# Altium integrated library ON Semi Signal Management Modems & Transceivers.IntLib: 97 symbols (part 2 of 5)
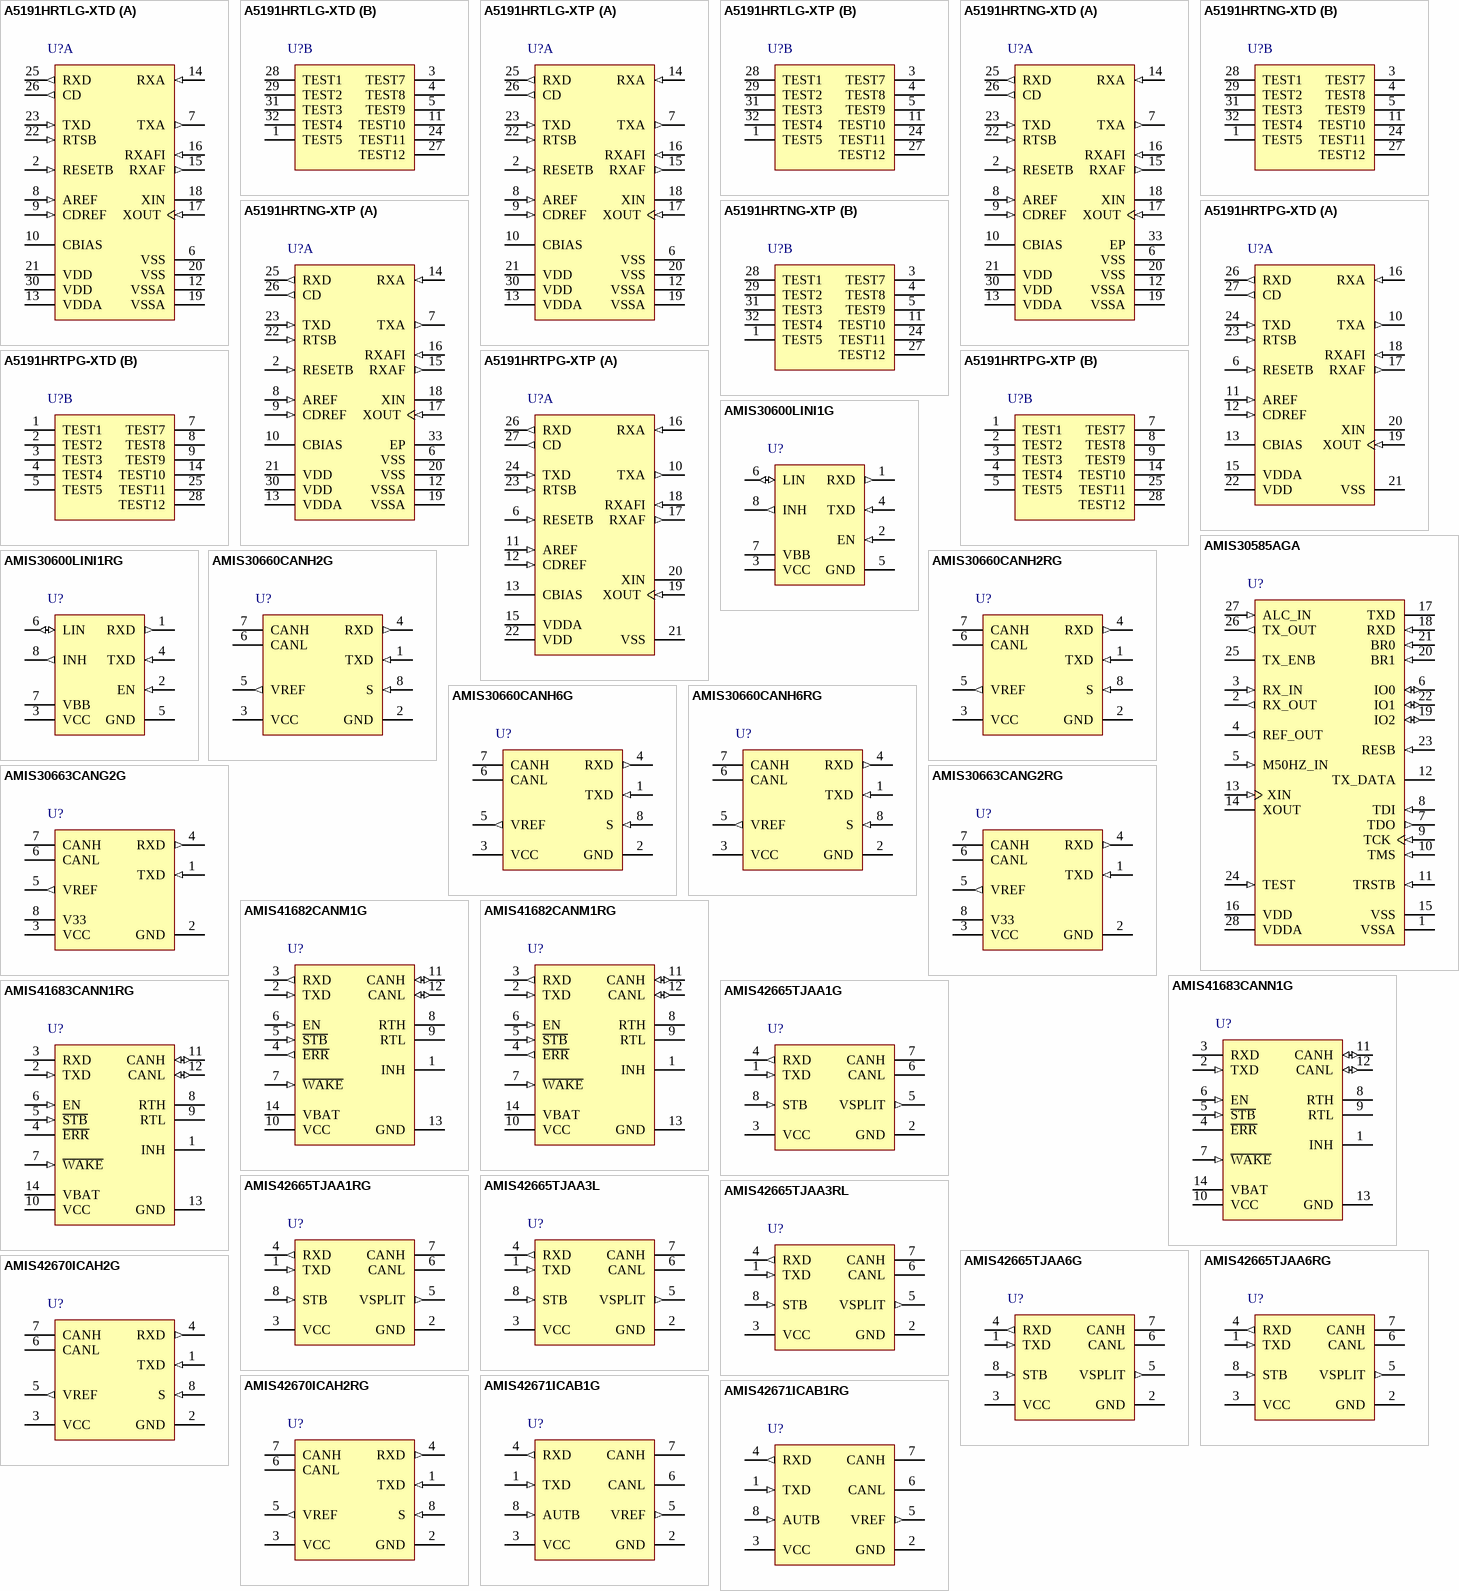
[diagram p5: symbols A5191HRTLG-XTD to AMIS42671ICAB1RG]

## AMIS42665TJAA6RG
designator U?
High-Speed Low Power CAN Transceiver, 4.75 to 5.25 V, -40 to 125 degC, 8-Pin SOIC, Pb-Free, Tape and Reel; Manufacturer: On Semiconductor; PartNumber: AMIS42665TJAA6RG; Data Rate: 1 Mb/s; Number of Drivers: 1; VCC Max (V): 5.25; VCC Min (V): 4.75; DatasheetVersion: Rev. 10; PackageVersion: Rev. AK, 02/2011; PackageReference: SOIC-8-751-07; PackageDescription: 8-Pin Small Outline Integrated Circuit, Body 4.9 x 3.9 mm, Pitch 1.27 mm; Supplier 1: Newark; Supplier Part Number 1: 63R1815; Supplier 2: Mouser; Supplier Part Number 2: 863-AMIS42665TJAA6RG; Data Transmission Standard: CAN; Number of Receivers: 1; Packing: Tape and Reel; RoHS: TRUE; Mounting Technology: Surface Mount; ComponentLink1Description: Manufacturer URL; ComponentLink1URL: http://www.onsemi.com/; ComponentLink2Description: Datasheet; ComponentLink2URL: http://www.onsemi.com/pub_link/Collateral/AMIS-42665-D.PDF; ComponentLink3Description: Package Specification; ComponentLink3URL: http://www.onsemi.com/pub_link/Collateral/751-07.PDF
footprint ONSC-SOIC-8-751-07_V (SOIC, 8-Leads, Body 4.9x3.9mm, Pitch 1.27mm)
pins: 1 TXD (in) "Transmit Data Input; Low Input --> Dominant Driver; Internal Pullup Current", 2 GND (power) "Ground", 3 VCC (power) "Supply Voltage", 4 RXD (out) "Receive Data Output; Dominant transmitter --> Low Output", 5 VSPLIT (out) "Common-Mode Stabilization Output", 6 CANL "Low-Level CAN Bus Line (Low in Dominant Mode)", 7 CANH "High-Level CAN Bus Line (High in Dominant Mode)", 8 STB (in) "Standby Mode Control Input"

## AMIS42670ICAH2G
designator U?
High-Speed CAN Transceiver for Long Networks, 4.75 to 5.25 V, -40 to 125 degC, 8-Pin SOIC, Pb-Free, Tube; Manufacturer: On Semiconductor; PartNumber: AMIS42670ICAH2G; Data Rate: 1 Mb/s; Number of Drivers: 1; VCC Max (V): 5.25; VCC Min (V): 4.75; DatasheetVersion: Rev. 3; PackageVersion: Rev. O, 09/2008; PackageReference: SOIC-8-751AZ-01; PackageDescription: 8-Pin Small Outline Integrated Circuit, Body 4.9 x 3.9 mm, Pitch 1.27 mm; Supplier 1: Digi-Key; Supplier Part Number 1: AMIS42670ICAH2G-ND; Supplier 2: Mouser; Supplier Part Number 2: 863-AMIS42670ICAH2G; Data Transmission Standard: CAN; Number of Receivers: 1; Packing: Tube; RoHS: TRUE; Mounting Technology: Surface Mount; ComponentLink1Description: Manufacturer URL; ComponentLink1URL: http://www.onsemi.com/; ComponentLink2Description: Datasheet; ComponentLink2URL: http://www.onsemi.com/pub_link/Collateral/AMIS-42670-D.PDF; ComponentLink3Description: Package Specification; ComponentLink3URL: http://www.onsemi.com/pub_link/Collateral/751AZ.PDF
footprint ONSC-SOIC-8-751AZ-01_N (SOIC, 8-Leads, Body 5x4mm, Pitch 1.27mm, IPC Medium Density)
footprint ONSC-SOIC-8-751AZ-01_L (SOIC, 8-Leads, Body 5x4mm, Pitch 1.27mm, IPC High Density)
footprint ONSC-SOIC-8-751AZ-01_M (SOIC, 8-Leads, Body 5x4mm, Pitch 1.27mm, IPC Low Density)
pins: 1 TXD (in) "Transmit data input; low input --> dominant driver; internal pull-up current", 2 GND (power) "Ground", 3 VCC (power) "Supply voltage", 4 RXD (out) "Receive data output; dominant transmitter --> low output", 5 VREF (out) "Reference voltage output", 6 CANL "Low-level CAN bus line (low in dominant mode)", 7 CANH "High-level CAN bus line (high in dominant mode)", 8 S (in) "Silent mode control input; internal pull-down current"

## AMIS42670ICAH2RG
designator U?
High-Speed CAN Transceiver for Long Networks, 4.75 to 5.25 V, -40 to 125 degC, 8-Pin SOIC, Pb-Free, Tape and Reel; Manufacturer: On Semiconductor; PartNumber: AMIS42670ICAH2RG; Data Rate: 1 Mb/s; Number of Drivers: 1; VCC Max (V): 5.25; VCC Min (V): 4.75; DatasheetVersion: Rev. 3; PackageVersion: Rev. O, 09/2008; PackageReference: SOIC-8-751AZ-01; PackageDescription: 8-Pin Small Outline Integrated Circuit, Body 4.9 x 3.9 mm, Pitch 1.27 mm; Supplier 1: Digi-Key; Supplier Part Number 1: AMIS42670ICAH2RG-ND; Supplier 2: Mouser; Supplier Part Number 2: 863-AMIS42670ICAH2RG; Data Transmission Standard: CAN; Number of Receivers: 1; Packing: Tape and Reel; RoHS: TRUE; Mounting Technology: Surface Mount; ComponentLink1Description: Manufacturer URL; ComponentLink1URL: http://www.onsemi.com/; ComponentLink2Description: Datasheet; ComponentLink2URL: http://www.onsemi.com/pub_link/Collateral/AMIS-42670-D.PDF; ComponentLink3Description: Package Specification; ComponentLink3URL: http://www.onsemi.com/pub_link/Collateral/751AZ.PDF
footprint ONSC-SOIC-8-751AZ-01_N (SOIC, 8-Leads, Body 5x4mm, Pitch 1.27mm, IPC Medium Density)
footprint ONSC-SOIC-8-751AZ-01_L (SOIC, 8-Leads, Body 5x4mm, Pitch 1.27mm, IPC High Density)
footprint ONSC-SOIC-8-751AZ-01_M (SOIC, 8-Leads, Body 5x4mm, Pitch 1.27mm, IPC Low Density)
pins: 1 TXD (in) "Transmit data input; low input --> dominant driver; internal pull-up current", 2 GND (power) "Ground", 3 VCC (power) "Supply voltage", 4 RXD (out) "Receive data output; dominant transmitter --> low output", 5 VREF (out) "Reference voltage output", 6 CANL "Low-level CAN bus line (low in dominant mode)", 7 CANH "High-level CAN bus line (high in dominant mode)", 8 S (in) "Silent mode control input; internal pull-down current"

## AMIS42671ICAB1G
designator U?
High Speed Autobaud CAN Transceiver, 4.75 to 5.25 V, -40 to 125 degC, 8-Pin SOIC, Pb-Free, Tube; Manufacturer: On Semiconductor; PartNumber: AMIS42671ICAB1G; Data Rate: 1 Mb/s; Number of Drivers: 1; VCC Max (V): 5.25; VCC Min (V): 4.75; DatasheetVersion: Rev. 3; PackageVersion: Rev. O, 09/2008; PackageReference: SOIC-8-751AZ-01; PackageDescription: 8-Pin Small Outline Integrated Circuit, Body 4.9 x 3.9 mm, Pitch 1.27 mm; Supplier 1: Digi-Key; Supplier Part Number 1: AMIS42671ICAB1G-ND; Supplier 2: Mouser; Supplier Part Number 2: 863-AMIS42671ICAB1G; Data Transmission Standard: CAN; Number of Receivers: 1; Packing: Tube; RoHS: TRUE; Mounting Technology: Surface Mount; ComponentLink1Description: Manufacturer URL; ComponentLink1URL: http://www.onsemi.com/; ComponentLink2Description: Datasheet; ComponentLink2URL: http://www.onsemi.com/pub_link/Collateral/AMIS-42671-D.PDF; ComponentLink3Description: Package Specification; ComponentLink3URL: http://www.onsemi.com/pub_link/Collateral/751AZ.PDF
footprint ONSC-SOIC-8-751AZ-01_N (SOIC, 8-Leads, Body 5x4mm, Pitch 1.27mm, IPC Medium Density)
footprint ONSC-SOIC-8-751AZ-01_L (SOIC, 8-Leads, Body 5x4mm, Pitch 1.27mm, IPC High Density)
footprint ONSC-SOIC-8-751AZ-01_M (SOIC, 8-Leads, Body 5x4mm, Pitch 1.27mm, IPC Low Density)
pins: 1 TXD (in) "Transmit Data Input; Low Input ? Dominant Driver; Internal Pullup Current", 2 GND (power) "Ground", 3 VCC (power) "Supply Voltage", 4 RXD (out) "Receive Data Output; Dominant Transmitter ? Low Output", 5 VREF (out) "Reference Voltage Output", 6 CANL "Low-Level CAN Bus Line (Low in Dominant Mode)", 7 CANH "High-Level CAN Bus Line (High in Dominant Mode)", 8 AUTB (in) "Autobaud Mode Control Input; Internal Pulldown Current"

## AMIS42671ICAB1RG
designator U?
High Speed Autobaud CAN Transceiver, 4.75 to 5.25 V, -40 to 125 degC, 8-Pin SOIC, Pb-Free, Tape and Reel; Manufacturer: On Semiconductor; PartNumber: AMIS42671ICAB1RG; Data Rate: 1 Mb/s; Number of Drivers: 1; VCC Max (V): 5.25; VCC Min (V): 4.75; DatasheetVersion: Rev. 3; PackageVersion: Rev. O, 09/2008; PackageReference: SOIC-8-751AZ-01; PackageDescription: 8-Pin Small Outline Integrated Circuit, Body 4.9 x 3.9 mm, Pitch 1.27 mm; Supplier 1: Digi-Key; Supplier Part Number 1: 766-1007-2-ND; Supplier 2: Digi-Key; Supplier Part Number 2: 766-1007-1-ND; Supplier 3: Digi-Key; Supplier Part Number 3: 766-1007-6-ND; Supplier 4: Mouser; Supplier Part Number 4: 863-AMIS42671ICAB1RG; Data Transmission Standard: CAN; Number of Receivers: 1; Packing: Tape and Reel; RoHS: TRUE; Mounting Technology: Surface Mount; ComponentLink1Description: Manufacturer URL; ComponentLink1URL: http://www.onsemi.com/; ComponentLink2Description: Datasheet; ComponentLink2URL: http://www.onsemi.com/pub_link/Collateral/AMIS-42671-D.PDF; ComponentLink3Description: Package Specification; ComponentLink3URL: http://www.onsemi.com/pub_link/Collateral/751AZ.PDF
footprint ONSC-SOIC-8-751AZ-01_N (SOIC, 8-Leads, Body 5x4mm, Pitch 1.27mm, IPC Medium Density)
footprint ONSC-SOIC-8-751AZ-01_L (SOIC, 8-Leads, Body 5x4mm, Pitch 1.27mm, IPC High Density)
footprint ONSC-SOIC-8-751AZ-01_M (SOIC, 8-Leads, Body 5x4mm, Pitch 1.27mm, IPC Low Density)
pins: 1 TXD (in) "Transmit Data Input; Low Input ? Dominant Driver; Internal Pullup Current", 2 GND (power) "Ground", 3 VCC (power) "Supply Voltage", 4 RXD (out) "Receive Data Output; Dominant Transmitter ? Low Output", 5 VREF (out) "Reference Voltage Output", 6 CANL "Low-Level CAN Bus Line (Low in Dominant Mode)", 7 CANH "High-Level CAN Bus Line (High in Dominant Mode)", 8 AUTB (in) "Autobaud Mode Control Input; Internal Pulldown Current"

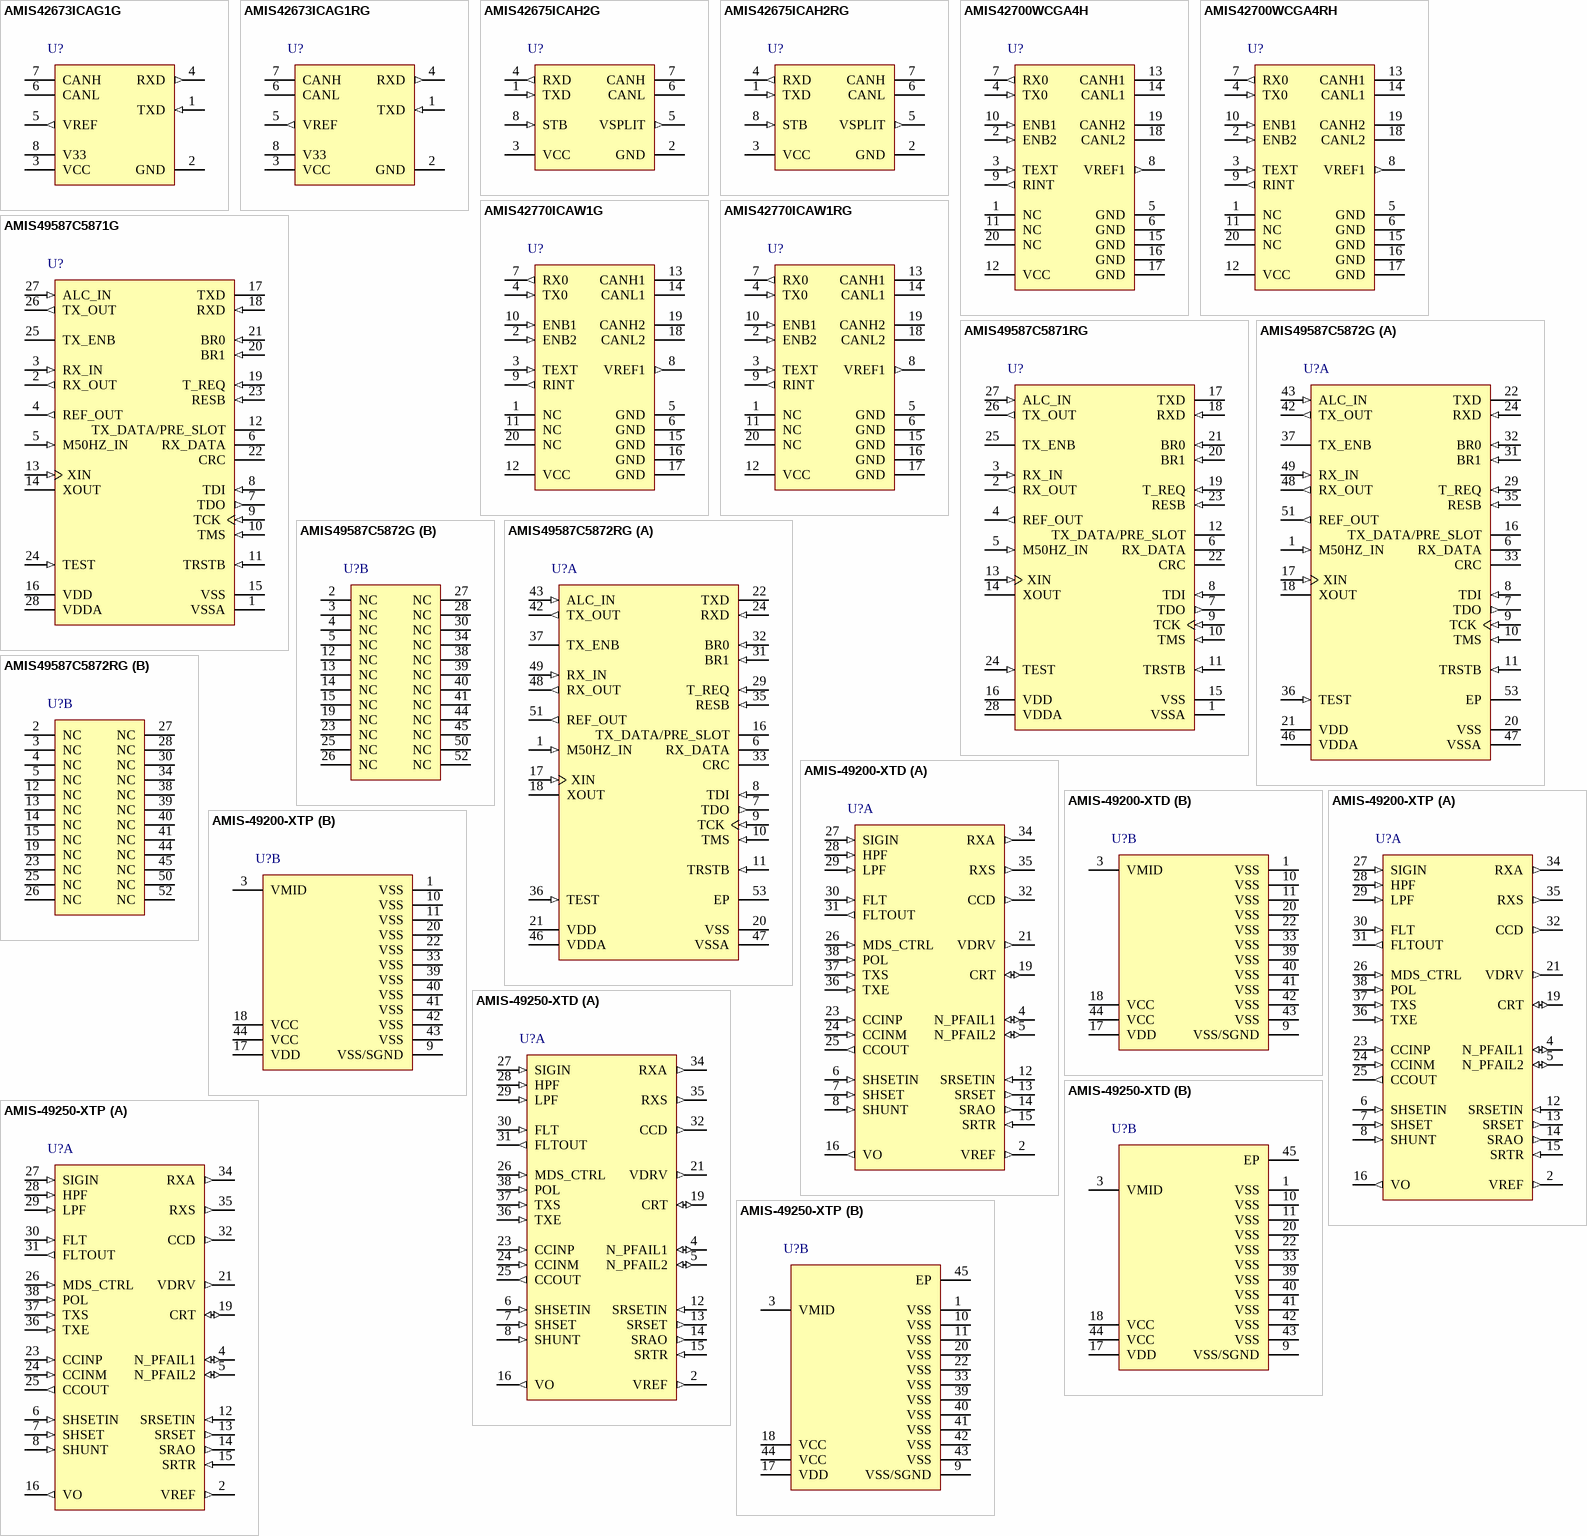
[diagram p1: symbols AMIS42673ICAG1G to AMIS-49250-XTP]

## AMIS42673ICAG1G
designator U?
High-Speed 3.3 V Digital Interface CAN Transceiver, 4.75 to 5.25 V, -40 to 125 degC, 8-Pin SOIC, Pb-Free, Tube; Manufacturer: On Semiconductor; PartNumber: AMIS42673ICAG1G; Data Rate: 1 Mb/s; Number of Drivers: 1; VCC Max (V): 5.25; VCC Min (V): 4.75; DatasheetVersion: Rev. 3; PackageVersion: Rev. O, 09/2008; PackageReference: SOIC-8-751AZ-01; PackageDescription: 8-Pin Small Outline Integrated Circuit, Body 4.9 x 3.9 mm, Pitch 1.27 mm; Supplier 1: Digi-Key; Supplier Part Number 1: AMIS42673ICAG1G-ND; Supplier 2: Mouser; Supplier Part Number 2: 863-AMIS42673ICAG1G; Data Transmission Standard: CAN; Number of Receivers: 1; Packing: Tube; RoHS: TRUE; Mounting Technology: Surface Mount; ComponentLink1Description: Manufacturer URL; ComponentLink1URL: http://www.onsemi.com/; ComponentLink2Description: Datasheet; ComponentLink2URL: http://www.onsemi.com/pub_link/Collateral/AMIS-42673-D.PDF; ComponentLink3Description: Package Specification; ComponentLink3URL: http://www.onsemi.com/pub_link/Collateral/751AZ.PDF
footprint ONSC-SOIC-8-751AZ-01_N (SOIC, 8-Leads, Body 5x4mm, Pitch 1.27mm, IPC Medium Density)
footprint ONSC-SOIC-8-751AZ-01_L (SOIC, 8-Leads, Body 5x4mm, Pitch 1.27mm, IPC High Density)
footprint ONSC-SOIC-8-751AZ-01_M (SOIC, 8-Leads, Body 5x4mm, Pitch 1.27mm, IPC Low Density)
pins: 1 TXD (in) "Transmit Data Input; Low Input --> Dominant Driver; Internal Pullup Current", 2 GND (power) "Ground", 3 VCC (power) "Supply Voltage", 4 RXD (out) "Receive Data Output; Dominant Transmitter --> Low Output", 5 VREF (out) "Reference Voltage Output", 6 CANL "Low-Level CAN Bus Line (Low in Dominant Mode)", 7 CANH "High-Level CAN Bus Line (High in Dominant Mode)", 8 V33 (power) "3.3 V Supply for Digital I/O"

## AMIS42673ICAG1RG
designator U?
High-Speed 3.3 V Digital Interface CAN Transceiver, 4.75 to 5.25 V, -40 to 125 degC, 8-Pin SOIC, Pb-Free, Tape and Reel; Manufacturer: On Semiconductor; PartNumber: AMIS42673ICAG1RG; Data Rate: 1 Mb/s; Number of Drivers: 1; VCC Max (V): 5.25; VCC Min (V): 4.75; DatasheetVersion: Rev. 3; PackageVersion: Rev. O, 09/2008; PackageReference: SOIC-8-751AZ-01; PackageDescription: 8-Pin Small Outline Integrated Circuit, Body 4.9 x 3.9 mm, Pitch 1.27 mm; Supplier 1: Digi-Key; Supplier Part Number 1: 766-1008-2-ND; Supplier 2: Digi-Key; Supplier Part Number 2: 766-1008-1-ND; Supplier 3: Digi-Key; Supplier Part Number 3: 766-1008-6-ND; Supplier 4: Newark; Supplier Part Number 4: 03P1163; Supplier 5: Mouser; Supplier Part Number 5: 863-AMIS42673ICAG1RG; Data Transmission Standard: CAN; Number of Receivers: 1; Packing: Tape and Reel; RoHS: TRUE; Mounting Technology: Surface Mount; ComponentLink1Description: Manufacturer URL; ComponentLink1URL: http://www.onsemi.com/; ComponentLink2Description: Datasheet; ComponentLink2URL: http://www.onsemi.com/pub_link/Collateral/AMIS-42673-D.PDF; ComponentLink3Description: Package Specification; ComponentLink3URL: http://www.onsemi.com/pub_link/Collateral/751AZ.PDF
footprint ONSC-SOIC-8-751AZ-01_N (SOIC, 8-Leads, Body 5x4mm, Pitch 1.27mm, IPC Medium Density)
footprint ONSC-SOIC-8-751AZ-01_L (SOIC, 8-Leads, Body 5x4mm, Pitch 1.27mm, IPC High Density)
footprint ONSC-SOIC-8-751AZ-01_M (SOIC, 8-Leads, Body 5x4mm, Pitch 1.27mm, IPC Low Density)
pins: 1 TXD (in) "Transmit Data Input; Low Input --> Dominant Driver; Internal Pullup Current", 2 GND (power) "Ground", 3 VCC (power) "Supply Voltage", 4 RXD (out) "Receive Data Output; Dominant Transmitter --> Low Output", 5 VREF (out) "Reference Voltage Output", 6 CANL "Low-Level CAN Bus Line (Low in Dominant Mode)", 7 CANH "High-Level CAN Bus Line (High in Dominant Mode)", 8 V33 (power) "3.3 V Supply for Digital I/O"

## AMIS42675ICAH2G
designator U?
High Speed Low Power CAN Transceiver for Long Wire Networks, 4.75 to 5.25 V, -40 to 125 degC, 8-Pin SOIC, Pb-Free, Tube; Manufacturer: On Semiconductor; PartNumber: AMIS42675ICAH2G; Data Rate: 1 Mb/s; Number of Drivers: 1; VCC Max (V): 5.25; VCC Min (V): 4.75; DatasheetVersion: Rev. 2; PackageVersion: Rev. O, 09/2008; PackageReference: SOIC-8-751AZ-01; PackageDescription: 8-Pin Small Outline Integrated Circuit, Body 4.9 x 3.9 mm, Pitch 1.27 mm; Data Transmission Standard: CAN; Number of Receivers: 1; Packing: Tube; RoHS: TRUE; Mounting Technology: Surface Mount; ComponentLink1Description: Manufacturer URL; ComponentLink1URL: http://www.onsemi.com/; ComponentLink2Description: Datasheet; ComponentLink2URL: http://www.onsemi.com/pub_link/Collateral/AMIS-42675-D.PDF; ComponentLink3Description: Package Specification; ComponentLink3URL: http://www.onsemi.com/pub_link/Collateral/751AZ.PDF
footprint ONSC-SOIC-8-751AZ-01_N (SOIC, 8-Leads, Body 5x4mm, Pitch 1.27mm, IPC Medium Density)
footprint ONSC-SOIC-8-751AZ-01_L (SOIC, 8-Leads, Body 5x4mm, Pitch 1.27mm, IPC High Density)
footprint ONSC-SOIC-8-751AZ-01_M (SOIC, 8-Leads, Body 5x4mm, Pitch 1.27mm, IPC Low Density)
pins: 1 TXD (in) "Transmit Data Input; Low Input --> Dominant Driver; Internal Pullup Current", 2 GND (power) "Ground", 3 VCC (power) "Supply Voltage", 4 RXD (out) "Receive Data Output; Dominant transmitter --> Low Output", 5 VSPLIT (out) "Common-Mode Stabilization Output", 6 CANL "Low-Level CAN Bus Line (Low in Dominant Mode)", 7 CANH "High-Level CAN Bus Line (High in Dominant Mode)", 8 STB (in) "Standby Mode Control Input"

## AMIS42675ICAH2RG
designator U?
High Speed Low Power CAN Transceiver for Long Wire Networks, 4.75 to 5.25 V, -40 to 125 degC, 8-Pin SOIC, Pb-Free, Tape and Reel; Manufacturer: On Semiconductor; PartNumber: AMIS42675ICAH2RG; Data Rate: 1 Mb/s; Number of Drivers: 1; VCC Max (V): 5.25; VCC Min (V): 4.75; DatasheetVersion: Rev. 2; PackageVersion: Rev. O, 09/2008; PackageReference: SOIC-8-751AZ-01; PackageDescription: 8-Pin Small Outline Integrated Circuit, Body 4.9 x 3.9 mm, Pitch 1.27 mm; Data Transmission Standard: CAN; Number of Receivers: 1; Packing: Tape and Reel; RoHS: TRUE; Mounting Technology: Surface Mount; ComponentLink1Description: Manufacturer URL; ComponentLink1URL: http://www.onsemi.com/; ComponentLink2Description: Datasheet; ComponentLink2URL: http://www.onsemi.com/pub_link/Collateral/AMIS-42675-D.PDF; ComponentLink3Description: Package Specification; ComponentLink3URL: http://www.onsemi.com/pub_link/Collateral/751AZ.PDF
footprint ONSC-SOIC-8-751AZ-01_N (SOIC, 8-Leads, Body 5x4mm, Pitch 1.27mm, IPC Medium Density)
footprint ONSC-SOIC-8-751AZ-01_L (SOIC, 8-Leads, Body 5x4mm, Pitch 1.27mm, IPC High Density)
footprint ONSC-SOIC-8-751AZ-01_M (SOIC, 8-Leads, Body 5x4mm, Pitch 1.27mm, IPC Low Density)
pins: 1 TXD (in) "Transmit Data Input; Low Input --> Dominant Driver; Internal Pullup Current", 2 GND (power) "Ground", 3 VCC (power) "Supply Voltage", 4 RXD (out) "Receive Data Output; Dominant transmitter --> Low Output", 5 VSPLIT (out) "Common-Mode Stabilization Output", 6 CANL "Low-Level CAN Bus Line (Low in Dominant Mode)", 7 CANH "High-Level CAN Bus Line (High in Dominant Mode)", 8 STB (in) "Standby Mode Control Input"

## AMIS42700WCGA4H
designator U?
Dual High Speed CAN Transceivers, 4.75 to 5.25 V, -40 to 125 degC, 20-Pin SOIC, Pb-Free, Tube; Manufacturer: On Semiconductor; PartNumber: AMIS42700WCGA4H; Data Rate: 1 Mb/s; Number of Drivers: 2; VCC Max (V): 5.25; VCC Min (V): 4.75; DatasheetVersion: Rev. 5; PackageVersion: Rev. O, 06/2008; PackageReference: SOIC-20-751AQ-01; PackageDescription: 20-Pin Small Outline Integrated Circuit, Body 12.78 x 7.51 mm, Pitch 1.27 mm; Supplier 1: Digi-Key; Supplier Part Number 1: AMIS42700WCGA4HOS-ND; Supplier 2: Newark; Supplier Part Number 2: 04R7433; Supplier 3: Mouser; Supplier Part Number 3: 863-AMIS42700WCGA4H; Data Transmission Standard: CAN; Number of Receivers: 2; Packing: Tube; RoHS: TRUE; Mounting Technology: Surface Mount; ComponentLink1Description: Manufacturer URL; ComponentLink1URL: http://www.onsemi.com/; ComponentLink2Description: Datasheet; ComponentLink2URL: http://www.onsemi.com/pub_link/Collateral/AMIS-42700-D.PDF; ComponentLink3Description: Package Specification; ComponentLink3URL: http://www.onsemi.com/pub_link/Collateral/751AQ.PDF
footprint ONSC-SOIC-20-751AQ-01_N (SOIC, 20-Leads, Body 13x7.6mm, Pitch 1.27mm, IPC Medium Density)
footprint ONSC-SOIC-20-751AQ-01_L (SOIC, 20-Leads, Body 13x7.6mm, Pitch 1.27mm, IPC High Density)
footprint ONSC-SOIC-20-751AQ-01_M (SOIC, 20-Leads, Body 13x7.6mm, Pitch 1.27mm, IPC Low Density)
pins: 1 NC "Not connected", 2 ENB2 (in) "Enable input, bus system 2; internal pull-up", 3 TEXT (in) "Multi-system transmitter Input; internal pull-up", 4 TX0 (in) "Transmitter input; internal pull-up", 5 GND (power) "Ground connection", 6 GND (power) "Ground connection", 7 RX0 (out) "Receiver output", 8 VREF1 (out) "Reference voltage", 9 RINT (out) "Multi-system receiver output", 10 ENB1 (in) "Enable input, bus system 1; internal pull-up", 11 NC "Not connected", 12 VCC (power) "Positive supply voltage", 13 CANH1 "CANH transceiver I/O bus system 1", 14 CANL1 "CANL transceiver I/O bus system 1", 15 GND (power) "Ground connection", 16 GND (power) "Ground connection", 17 GND (power) "Ground connection", 18 CANL2 "CANL transceiver I/O bus system 2", 19 CANH2 "CANH transceiver I/O bus system 2", 20 NC "Not connected"

## AMIS42700WCGA4RH
designator U?
Dual High Speed CAN Transceivers, 4.75 to 5.25 V, -40 to 125 degC, 20-Pin SOIC, Pb-Free, Tape and Reel; Manufacturer: On Semiconductor; PartNumber: AMIS42700WCGA4RH; Data Rate: 1 Mb/s; Number of Drivers: 2; VCC Max (V): 5.25; VCC Min (V): 4.75; DatasheetVersion: Rev. 5; PackageVersion: Rev. O, 06/2008; PackageReference: SOIC-20-751AQ-01; PackageDescription: 20-Pin Small Outline Integrated Circuit, Body 12.78 x 7.51 mm, Pitch 1.27 mm; Supplier 1: Digi-Key; Supplier Part Number 1: AMIS42700WCGA4RHOSTR-ND; Supplier 2: Digi-Key; Supplier Part Number 2: AMIS42700WCGA4RHOSCT-ND; Supplier 3: Digi-Key; Supplier Part Number 3: AMIS42700WCGA4RHOSDKR-ND; Supplier 4: Newark; Supplier Part Number 4: 05R9017; Supplier 5: Mouser; Supplier Part Number 5: 863-AMIS42700WCGA4RH; Data Transmission Standard: CAN; Number of Receivers: 2; Packing: Tape and Reel; RoHS: TRUE; Mounting Technology: Surface Mount; ComponentLink1Description: Manufacturer URL; ComponentLink1URL: http://www.onsemi.com/; ComponentLink2Description: Datasheet; ComponentLink2URL: http://www.onsemi.com/pub_link/Collateral/AMIS-42700-D.PDF; ComponentLink3Description: Package Specification; ComponentLink3URL: http://www.onsemi.com/pub_link/Collateral/751AQ.PDF
footprint ONSC-SOIC-20-751AQ-01_N (SOIC, 20-Leads, Body 13x7.6mm, Pitch 1.27mm, IPC Medium Density)
footprint ONSC-SOIC-20-751AQ-01_L (SOIC, 20-Leads, Body 13x7.6mm, Pitch 1.27mm, IPC High Density)
footprint ONSC-SOIC-20-751AQ-01_M (SOIC, 20-Leads, Body 13x7.6mm, Pitch 1.27mm, IPC Low Density)
pins: 1 NC "Not connected", 2 ENB2 (in) "Enable input, bus system 2; internal pull-up", 3 TEXT (in) "Multi-system transmitter Input; internal pull-up", 4 TX0 (in) "Transmitter input; internal pull-up", 5 GND (power) "Ground connection", 6 GND (power) "Ground connection", 7 RX0 (out) "Receiver output", 8 VREF1 (out) "Reference voltage", 9 RINT (out) "Multi-system receiver output", 10 ENB1 (in) "Enable input, bus system 1; internal pull-up", 11 NC "Not connected", 12 VCC (power) "Positive supply voltage", 13 CANH1 "CANH transceiver I/O bus system 1", 14 CANL1 "CANL transceiver I/O bus system 1", 15 GND (power) "Ground connection", 16 GND (power) "Ground connection", 17 GND (power) "Ground connection", 18 CANL2 "CANL transceiver I/O bus system 2", 19 CANH2 "CANH transceiver I/O bus system 2", 20 NC "Not connected"

## AMIS42770ICAW1G
designator U?
Dual High Speed CAN Transceivers, 4.75 to 5.25 V, -40 to 125 degC, 20-Pin SOIC, Pb-Free, Tube; Manufacturer: On Semiconductor; PartNumber: AMIS42770ICAW1G; Data Rate: 1 Mb/s; Number of Drivers: 1; VCC Max (V): 5.25; VCC Min (V): 4.75; DatasheetVersion: Rev. 3; PackageVersion: Rev. O, 06/2008; PackageReference: SOIC-20-751AQ-01; PackageDescription: 20-Pin Small Outline Integrated Circuit, Body 12.78 x 7.51 mm, Pitch 1.27 mm; Supplier 1: Digi-Key; Supplier Part Number 1: AMIS42770ICAW1GOS-ND; Supplier 2: Newark; Supplier Part Number 2: 05R9018; Supplier 3: Mouser; Supplier Part Number 3: 863-AMIS42770ICAW1G; Data Transmission Standard: CAN; Number of Receivers: 1; Packing: Tube; RoHS: TRUE; Mounting Technology: Surface Mount; ComponentLink1Description: Manufacturer URL; ComponentLink1URL: http://www.onsemi.com/; ComponentLink2Description: Datasheet; ComponentLink2URL: http://www.onsemi.com/pub_link/Collateral/AMIS-42770-D.PDF; ComponentLink3Description: Package Specification; ComponentLink3URL: http://www.onsemi.com/pub_link/Collateral/751AQ.PDF
footprint ONSC-SOIC-20-751AQ-01_N (SOIC, 20-Leads, Body 13x7.6mm, Pitch 1.27mm, IPC Medium Density)
footprint ONSC-SOIC-20-751AQ-01_L (SOIC, 20-Leads, Body 13x7.6mm, Pitch 1.27mm, IPC High Density)
footprint ONSC-SOIC-20-751AQ-01_M (SOIC, 20-Leads, Body 13x7.6mm, Pitch 1.27mm, IPC Low Density)
pins: 1 NC "Not connected", 2 ENB2 (in) "Enable input, bus system 2; internal pull-up", 3 TEXT (in) "Multi-system transmitter Input; internal pull-up", 4 TX0 (in) "Transmitter input; internal pull-up", 5 GND (power) "Ground connection", 6 GND (power) "Ground connection", 7 RX0 (out) "Receiver output", 8 VREF1 (out) "Reference voltage", 9 RINT (out) "Multi-system receiver output", 10 ENB1 (in) "Enable input, bus system 1; internal pull-up", 11 NC "Not connected", 12 VCC (power) "Positive supply voltage", 13 CANH1 "CANH transceiver I/O bus system 1", 14 CANL1 "CANL transceiver I/O bus system 1", 15 GND (power) "Ground connection", 16 GND (power) "Ground connection", 17 GND (power) "Ground connection", 18 CANL2 "CANL transceiver I/O bus system 2", 19 CANH2 "CANH transceiver I/O bus system 2", 20 NC "Not connected"

## AMIS42770ICAW1RG
designator U?
Dual High Speed CAN Transceivers, 4.75 to 5.25 V, -40 to 125 degC, 20-Pin SOIC, Pb-Free, Tape and Reel; Manufacturer: On Semiconductor; PartNumber: AMIS42770ICAW1RG; Data Rate: 1 Mb/s; Number of Drivers: 1; VCC Max (V): 5.25; VCC Min (V): 4.75; DatasheetVersion: Rev. 3; PackageVersion: Rev. O, 06/2008; PackageReference: SOIC-20-751AQ-01; PackageDescription: 20-Pin Small Outline Integrated Circuit, Body 12.78 x 7.51 mm, Pitch 1.27 mm; Supplier 1: Digi-Key; Supplier Part Number 1: 766-1010-2-ND; Supplier 2: Digi-Key; Supplier Part Number 2: 766-1010-1-ND; Supplier 3: Digi-Key; Supplier Part Number 3: 766-1010-6-ND; Supplier 4: Farnell; Supplier Part Number 4: 2308698; Supplier 5: Newark; Supplier Part Number 5: 03P1165; Supplier 6: Mouser; Supplier Part Number 6: 863-AMIS42770ICAW1RG; Data Transmission Standard: CAN; Number of Receivers: 1; Packing: Tape and Reel; RoHS: TRUE; Mounting Technology: Surface Mount; ComponentLink1Description: Manufacturer URL; ComponentLink1URL: http://www.onsemi.com/; ComponentLink2Description: Datasheet; ComponentLink2URL: http://www.onsemi.com/pub_link/Collateral/AMIS-42770-D.PDF; ComponentLink3Description: Package Specification; ComponentLink3URL: http://www.onsemi.com/pub_link/Collateral/751AQ.PDF
footprint ONSC-SOIC-20-751AQ-01_N (SOIC, 20-Leads, Body 13x7.6mm, Pitch 1.27mm, IPC Medium Density)
footprint ONSC-SOIC-20-751AQ-01_L (SOIC, 20-Leads, Body 13x7.6mm, Pitch 1.27mm, IPC High Density)
footprint ONSC-SOIC-20-751AQ-01_M (SOIC, 20-Leads, Body 13x7.6mm, Pitch 1.27mm, IPC Low Density)
pins: 1 NC "Not connected", 2 ENB2 (in) "Enable input, bus system 2; internal pull-up", 3 TEXT (in) "Multi-system transmitter Input; internal pull-up", 4 TX0 (in) "Transmitter input; internal pull-up", 5 GND (power) "Ground connection", 6 GND (power) "Ground connection", 7 RX0 (out) "Receiver output", 8 VREF1 (out) "Reference voltage", 9 RINT (out) "Multi-system receiver output", 10 ENB1 (in) "Enable input, bus system 1; internal pull-up", 11 NC "Not connected", 12 VCC (power) "Positive supply voltage", 13 CANH1 "CANH transceiver I/O bus system 1", 14 CANL1 "CANL transceiver I/O bus system 1", 15 GND (power) "Ground connection", 16 GND (power) "Ground connection", 17 GND (power) "Ground connection", 18 CANL2 "CANL transceiver I/O bus system 2", 19 CANH2 "CANH transceiver I/O bus system 2", 20 NC "Not connected"

## AMIS49587C5871G
designator U?
Power Line Carrier Modem, 3 to 3.6 V, -40 to 85 degC, 28-Pin PLCC, Pb-Free, Tube; Manufacturer: On Semiconductor; PartNumber: AMIS49587C5871G; Data Transmission Standard: S-FSK; Number of Drivers: 1; VCC Max (V): 3.6; VCC Min (V): 3; DatasheetVersion: Rev. 0; PackageVersion: Rev. O, 06/2008; PackageReference: PLCC-28-776AA-01; PackageDescription: 28-Pin Plastic Leaded Chip Carrier, Body 11.51 x 11.51 mm, Pitch 1.27 mm; Supplier 1: Digi-Key; Supplier Part Number 1: AMIS49587C5871G-ND; Supplier 2: Mouser; Supplier Part Number 2: 863-AMIS49587C5871G; Number of Receivers: 1; Packing: Tube; RoHS: TRUE; Mounting Technology: Surface Mount; ComponentLink1Description: Manufacturer URL; ComponentLink1URL: http://www.onsemi.com/; ComponentLink2Description: Datasheet; ComponentLink2URL: http://www.onsemi.com/pub_link/Collateral/AMIS-49587-D.PDF; ComponentLink3Description: Package Specification; ComponentLink3URL: http://www.onsemi.com/pub_link/Collateral/776AA.PDF
footprint ONSC-PLCC-28-776AA-01_N (PLCC, 28-Leads, Body 11.58x11.58mm, Pitch 1.27mm, IPC Medium Density)
footprint ONSC-PLCC-28-776AA-01_L (PLCC, 28-Leads, Body 11.58x11.58mm, Pitch 1.27mm, IPC High Density)
footprint ONSC-PLCC-28-776AA-01_M (PLCC, 28-Leads, Body 11.58x11.58mm, Pitch 1.27mm, IPC Low Density)
pins: 1 VSSA (power) "Analog ground", 2 RX_OUT (out) "Output of receiver low noise operational amplifier", 3 RX_IN (in) "Positive input of receiver low noise operational amplifier", 4 REF_OUT (out) "Reference output for stabilization", 5 M50HZ_IN (in) "50/60 Hz input for mains zero cross detection", 6 RX_DATA (oc) "Data reception indication (open drain output)", 7 TDO (out) "Test data output", 8 TDI (in) "Test data input (internal pulldown)", 9 TCK (in) "Test clock (internal pulldown)", 10 TMS (in) "Test mode select (internal pulldown)", 11 TRSTB (in) "Test reset bar (internal pulldown, active low)", 12 TX_DATA/PRE_SLOT (oc) "Data output corresponding to transmitted data or PRE_SLOT signal (open drain output)", 13 XIN (in) "Xtal input (can be driven by an internal clock)", 14 XOUT "Xtal output (output floating when XIN driven by external clock)", 15 VSS (power) "Digital ground", 16 VDD (power) "3.3 V digital supply", 17 TXD (oc) "SCI transmit output (open drain)", 18 RXD (in) "SCI receive input (Schmitt trigger input)", 19 T_REQ (in) "Transmit request input", 20 BR1 (in) "SCI baud rate selection", 21 BR0 (in) "SCI baud rate selection", 22 CRC (oc) "Correct frame CRC indication (open drain output)", 23 RESB (in) "Master reset bar (Schmitt trigger input, active low)", 24 TEST (in) "Test enable (internal pulldown)", 25 TX_ENB (oc) "TX enable bar (open drain)", 26 TX_OUT (out) "Transmitter output", 27 ALC_IN (in) "Automatic level control input", 28 VDDA (power) "3.3 V analog supply"

## AMIS49587C5871RG
designator U?
Power Line Carrier Modem, 3 to 3.6 V, -40 to 85 degC, 28-Pin PLCC, Pb-Free, Tape and Reel; Manufacturer: On Semiconductor; PartNumber: AMIS49587C5871RG; Data Transmission Standard: S-FSK; Number of Drivers: 1; VCC Max (V): 3.6; VCC Min (V): 3; DatasheetVersion: Rev. 0; PackageVersion: Rev. O, 06/2008; PackageReference: PLCC-28-776AA-01; PackageDescription: 28-Pin Plastic Leaded Chip Carrier, Body 11.51 x 11.51 mm, Pitch 1.27 mm; Supplier 1: Digi-Key; Supplier Part Number 1: AMIS49587C5871RG-ND; Supplier 2: Mouser; Supplier Part Number 2: 863-AMIS49587C5871RG; Number of Receivers: 1; Packing: Tape and Reel; RoHS: TRUE; Mounting Technology: Surface Mount; ComponentLink1Description: Manufacturer URL; ComponentLink1URL: http://www.onsemi.com/; ComponentLink2Description: Datasheet; ComponentLink2URL: http://www.onsemi.com/pub_link/Collateral/AMIS-49587-D.PDF; ComponentLink3Description: Package Specification; ComponentLink3URL: http://www.onsemi.com/pub_link/Collateral/776AA.PDF
footprint ONSC-PLCC-28-776AA-01_N (PLCC, 28-Leads, Body 11.58x11.58mm, Pitch 1.27mm, IPC Medium Density)
footprint ONSC-PLCC-28-776AA-01_L (PLCC, 28-Leads, Body 11.58x11.58mm, Pitch 1.27mm, IPC High Density)
footprint ONSC-PLCC-28-776AA-01_M (PLCC, 28-Leads, Body 11.58x11.58mm, Pitch 1.27mm, IPC Low Density)
pins: 1 VSSA (power) "Analog ground", 2 RX_OUT (out) "Output of receiver low noise operational amplifier", 3 RX_IN (in) "Positive input of receiver low noise operational amplifier", 4 REF_OUT (out) "Reference output for stabilization", 5 M50HZ_IN (in) "50/60 Hz input for mains zero cross detection", 6 RX_DATA (oc) "Data reception indication (open drain output)", 7 TDO (out) "Test data output", 8 TDI (in) "Test data input (internal pulldown)", 9 TCK (in) "Test clock (internal pulldown)", 10 TMS (in) "Test mode select (internal pulldown)", 11 TRSTB (in) "Test reset bar (internal pulldown, active low)", 12 TX_DATA/PRE_SLOT (oc) "Data output corresponding to transmitted data or PRE_SLOT signal (open drain output)", 13 XIN (in) "Xtal input (can be driven by an internal clock)", 14 XOUT "Xtal output (output floating when XIN driven by external clock)", 15 VSS (power) "Digital ground", 16 VDD (power) "3.3 V digital supply", 17 TXD (oc) "SCI transmit output (open drain)", 18 RXD (in) "SCI receive input (Schmitt trigger input)", 19 T_REQ (in) "Transmit request input", 20 BR1 (in) "SCI baud rate selection", 21 BR0 (in) "SCI baud rate selection", 22 CRC (oc) "Correct frame CRC indication (open drain output)", 23 RESB (in) "Master reset bar (Schmitt trigger input, active low)", 24 TEST (in) "Test enable (internal pulldown)", 25 TX_ENB (oc) "TX enable bar (open drain)", 26 TX_OUT (out) "Transmitter output", 27 ALC_IN (in) "Automatic level control input", 28 VDDA (power) "3.3 V analog supply"

## AMIS49587C5872G
designator U?
Power Line Carrier Modem, 3 to 3.6 V, -40 to 85 degC, 52-Pin QFN, Pb-Free, Tube; Manufacturer: On Semiconductor; PartNumber: AMIS49587C5872G; Data Transmission Standard: S-FSK; Number of Drivers: 1; VCC Max (V): 3.6; VCC Min (V): 3; DatasheetVersion: Rev. 0; PackageVersion: Rev. B, 10/2008; PackageReference: QFN-52-485M-01_B; PackageDescription: 52-Pin Quad Flat No-Lead, Body 8 x 8 mm, Pitch 0.5 mm; Supplier 1: Digi-Key; Supplier Part Number 1: AMIS49587C5872G-ND; Supplier 2: Mouser; Supplier Part Number 2: 863-AMIS49587C5872G; Number of Receivers: 1; Packing: Tube; RoHS: TRUE; Mounting Technology: Surface Mount; ComponentLink1Description: Manufacturer URL; ComponentLink1URL: http://www.onsemi.com/; ComponentLink2Description: Datasheet; ComponentLink2URL: http://www.onsemi.com/pub_link/Collateral/AMIS-49587-D.PDF; ComponentLink3Description: Package Specification; ComponentLink3URL: http://www.onsemi.com/pub/Collateral/NB4L7210.PDF
footprint ONSC-QFN-52-485M-01_B_N (QFN, 52-Leads, Body 8x8mm, Pitch 0.5mm, Thermal Pad 6.65x6.65mm, IPC Medium Density)
footprint ONSC-QFN-52-485M-01_B_L (QFN, 52-Leads, Body 8x8mm, Pitch 0.5mm, Thermal Pad 6.65x6.65mm, IPC High Density)
footprint ONSC-QFN-52-485M-01_B_M (QFN, 52-Leads, Body 8x8mm, Pitch 0.5mm, Thermal Pad 6.65x6.65mm, IPC Low Density)
part A pins: 1 M50HZ_IN (in) "50/60Hz input for mains zero cross detection", 6 RX_DATA (oc) "Data reception indication (open drain output)", 7 TDO (out) "Test data output", 8 TDI (in) "Test data input (internal pull down)", 9 TCK (in) "Test clock (internal pull down)", 10 TMS (in) "Test mode select (internal pull down)", 11 TRSTB (in) "Test reset bar (internal pull down, active low)", 16 TX_DATA/PRE_SLOT (oc) "Data output corresponding to transmitted data or PRE_SLOT signal (open drain)", 17 XIN (in) "Xtal input (can be driven by an internal clock)", 18 XOUT "Xtal output (output floating when XIN driven by external clock)", 20 VSS (power) "Digital ground", 21 VDD (power) "3.3 V digital supply", 22 TXD (oc) "SCI transmit output (open drain)", 24 RXD (in) "SCI receive input (Schmitt trigger input)", 29 T_REQ (in) "Transmit Request input", 31 BR1 (in) "SCI baud rate selection", 32 BR0 (in) "SCI baud rate selection", 33 CRC (oc) "Correct frame CRC indication (open drain output)", 35 RESB (in) "Master reset bar (Schmitt trigger input, active low)", 36 TEST (in) "Test enable (internal pull down)", 37 TX_ENB (oc) "TX enable bar (open drain)", 42 TX_OUT (out) "Transmitter output", 43 ALC_IN (in) "Automatic level control input", 46 VDDA (power) "3.3 V analog supply", 47 VSSA (power) "Analog ground", 48 RX_OUT (out) "Output of receiver low noise operational amplifier", 49 RX_IN (in) "Positive input of receiver low noise operational amplifier", 51 REF_OUT (out) "Reference output for stabilization", 53 EP
part B pins: 2 NC "These pins need to be left open or connected to the GND plane", 3 NC "These pins need to be left open or connected to the GND plane", 4 NC "These pins need to be left open or connected to the GND plane", 5 NC "These pins need to be left open or connected to the GND plane", 12 NC "These pins need to be left open or connected to the GND plane", 13 NC "These pins need to be left open or connected to the GND plane", 14 NC "These pins need to be left open or connected to the GND plane", 15 NC "These pins need to be left open or connected to the GND plane", 19 NC "These pins need to be left open or connected to the GND plane", 23 NC "These pins need to be left open or connected to the GND plane", 25 NC "These pins need to be left open or connected to the GND plane", 26 NC "These pins need to be left open or connected to the GND plane", 27 NC "These pins need to be left open or connected to the GND plane", 28 NC "These pins need to be left open or connected to the GND plane", 30 NC "These pins need to be left open or connected to the GND plane", 34 NC "These pins need to be left open or connected to the GND plane", 38 NC "These pins need to be left open or connected to the GND plane", 39 NC "These pins need to be left open or connected to the GND plane", 40 NC "These pins need to be left open or connected to the GND plane", 41 NC "These pins need to be left open or connected to the GND plane", 44 NC "These pins need to be left open or connected to the GND plane", 45 NC "These pins need to be left open or connected to the GND plane", 50 NC "These pins need to be left open or connected to the GND plane", 52 NC "These pins need to be left open or connected to the GND plane"

## AMIS49587C5872RG
designator U?
Power Line Carrier Modem, 3 to 3.6 V, -40 to 85 degC, 52-Pin QFN, Pb-Free, Tape and Reel; Manufacturer: On Semiconductor; PartNumber: AMIS49587C5872RG; Data Transmission Standard: S-FSK; Number of Drivers: 1; VCC Max (V): 3.6; VCC Min (V): 3; DatasheetVersion: Rev. 0; PackageVersion: Rev. B, 10/2008; PackageReference: QFN-52-485M-01_B; PackageDescription: 52-Pin Quad Flat No-Lead, Body 8 x 8 mm, Pitch 0.5 mm; Supplier 1: Digi-Key; Supplier Part Number 1: AMIS49587C5872RG-ND; Supplier 2: Mouser; Supplier Part Number 2: 863-AMIS49587C5872RG; Number of Receivers: 1; Packing: Tape and Reel; RoHS: TRUE; Mounting Technology: Surface Mount; ComponentLink1Description: Manufacturer URL; ComponentLink1URL: http://www.onsemi.com/; ComponentLink2Description: Datasheet; ComponentLink2URL: http://www.onsemi.com/pub_link/Collateral/AMIS-49587-D.PDF; ComponentLink3Description: Package Specification; ComponentLink3URL: http://www.onsemi.com/pub/Collateral/NB4L7210.PDF
footprint ONSC-QFN-52-485M-01_B_N (QFN, 52-Leads, Body 8x8mm, Pitch 0.5mm, Thermal Pad 6.65x6.65mm, IPC Medium Density)
footprint ONSC-QFN-52-485M-01_B_L (QFN, 52-Leads, Body 8x8mm, Pitch 0.5mm, Thermal Pad 6.65x6.65mm, IPC High Density)
footprint ONSC-QFN-52-485M-01_B_M (QFN, 52-Leads, Body 8x8mm, Pitch 0.5mm, Thermal Pad 6.65x6.65mm, IPC Low Density)
part A pins: 1 M50HZ_IN (in) "50/60Hz input for mains zero cross detection", 6 RX_DATA (oc) "Data reception indication (open drain output)", 7 TDO (out) "Test data output", 8 TDI (in) "Test data input (internal pull down)", 9 TCK (in) "Test clock (internal pull down)", 10 TMS (in) "Test mode select (internal pull down)", 11 TRSTB (in) "Test reset bar (internal pull down, active low)", 16 TX_DATA/PRE_SLOT (oc) "Data output corresponding to transmitted data or PRE_SLOT signal (open drain)", 17 XIN (in) "Xtal input (can be driven by an internal clock)", 18 XOUT "Xtal output (output floating when XIN driven by external clock)", 20 VSS (power) "Digital ground", 21 VDD (power) "3.3 V digital supply", 22 TXD (oc) "SCI transmit output (open drain)", 24 RXD (in) "SCI receive input (Schmitt trigger input)", 29 T_REQ (in) "Transmit Request input", 31 BR1 (in) "SCI baud rate selection", 32 BR0 (in) "SCI baud rate selection", 33 CRC (oc) "Correct frame CRC indication (open drain output)", 35 RESB (in) "Master reset bar (Schmitt trigger input, active low)", 36 TEST (in) "Test enable (internal pull down)", 37 TX_ENB (oc) "TX enable bar (open drain)", 42 TX_OUT (out) "Transmitter output", 43 ALC_IN (in) "Automatic level control input", 46 VDDA (power) "3.3 V analog supply", 47 VSSA (power) "Analog ground", 48 RX_OUT (out) "Output of receiver low noise operational amplifier", 49 RX_IN (in) "Positive input of receiver low noise operational amplifier", 51 REF_OUT (out) "Reference output for stabilization", 53 EP
part B pins: 2 NC "These pins need to be left open or connected to the GND plane", 3 NC "These pins need to be left open or connected to the GND plane", 4 NC "These pins need to be left open or connected to the GND plane", 5 NC "These pins need to be left open or connected to the GND plane", 12 NC "These pins need to be left open or connected to the GND plane", 13 NC "These pins need to be left open or connected to the GND plane", 14 NC "These pins need to be left open or connected to the GND plane", 15 NC "These pins need to be left open or connected to the GND plane", 19 NC "These pins need to be left open or connected to the GND plane", 23 NC "These pins need to be left open or connected to the GND plane", 25 NC "These pins need to be left open or connected to the GND plane", 26 NC "These pins need to be left open or connected to the GND plane", 27 NC "These pins need to be left open or connected to the GND plane", 28 NC "These pins need to be left open or connected to the GND plane", 30 NC "These pins need to be left open or connected to the GND plane", 34 NC "These pins need to be left open or connected to the GND plane", 38 NC "These pins need to be left open or connected to the GND plane", 39 NC "These pins need to be left open or connected to the GND plane", 40 NC "These pins need to be left open or connected to the GND plane", 41 NC "These pins need to be left open or connected to the GND plane", 44 NC "These pins need to be left open or connected to the GND plane", 45 NC "These pins need to be left open or connected to the GND plane", 50 NC "These pins need to be left open or connected to the GND plane", 52 NC "These pins need to be left open or connected to the GND plane"

## AMIS-49200-XTD
designator U?
Fieldbus Physical Layer Medium Access Unit (MAU), 4.75 to 6.2 V, -40 to 85 degC, 44-Pin LQFP, Pb-Free, Tray; Manufacturer: On Semiconductor; PartNumber: AMIS-49200-XTD; Data Rate: 31.25 kbps; Number of Drivers: 1; VCC Max (V): 6.2; VCC Min (V): 4.75; DatasheetVersion: Rev. 7; PackageVersion: Rev. O, 06/2008; PackageReference: LQFP-44-561AA-01; PackageDescription: 44-Pin Quad Flat Package, Body 10 x 10 mm, Pitch 0.8 mm; Supplier 1: Digi-Key; Supplier Part Number 1: 766-1019-ND; Supplier 2: Newark; Supplier Part Number 2: 03P1150; Supplier 3: Mouser; Supplier Part Number 3: 863-AMIS-49200-XTD; Data Transmission Standard: MAU; Number of Receivers: 1; Packing: Tray; RoHS: TRUE; Mounting Technology: Surface Mount; ComponentLink1Description: Manufacturer URL; ComponentLink1URL: http://www.onsemi.com/; ComponentLink2Description: Datasheet; ComponentLink2URL: http://www.onsemi.com/pub_link/Collateral/AMIS-492X0-D.PDF; ComponentLink3Description: Package Specification; ComponentLink3URL: http://www.onsemi.com/pub_link/Collateral/561AA.PDF
footprint ONSC-LQFP-44-561AA-01_N (QFP, 44-Leads, Body 10x10mm, Pitch 0.8mm, IPC Medium Density)
footprint ONSC-LQFP-44-561AA-01_L (QFP, 44-Leads, Body 10x10mm, Pitch 0.8mm, IPC High Density)
footprint ONSC-LQFP-44-561AA-01_M (QFP, 44-Leads, Body 10x10mm, Pitch 0.8mm, IPC Low Density)
part A pins: 2 VREF (out) "Internal bandgap voltage (1.18V)", 4 N_PFAIL1 (io) "Power fail alarm at VCC input. This pin is an open-drain output of negative logic.", 5 N_PFAIL2 (io) "Power fail alarm at VDD input. This pin is an open-drain output of negative logic.", 6 SHSETIN (in) "Feedback (non-inverting) input for the shunt regulator", 7 SHSET (in) "Divided voltage of VCC input. Feeding this voltage to SHSETIN pin results in 5V voltage at VCC.", 8 SHUNT (in) "Control pin of the shunt regulator. Its sink current (25mA max) is controlled so that the voltage at SHSETIN is equal to VREF (1.18V).", 12 SRSETIN (in) "Feedback (inverting) input for the series regulator. The series regulator controls its output (SRAO) to make this input voltage is equal to VREF (1.18V).", 13 SRSET (out) "Divided voltage of VO output. Feeding this voltage into SRSETIN pin results in 3V at VO pin.", 14 SRAO (out) "Output pin of an operational amplifier for the series regulator", 15 SRTR (in) "Gate of a PMOS transistor for the series regulator", 16 VO (out) "Output pin of the series regulator (20mA max)", 19 CRT (io) "Current integration to limit output slew rate", 21 VDRV (out) "Output of an operational amplifier for slew rate control. This signal can be fed to current driver.", 23 CCINP (in) "Non-inverting input of an operational amplifier for transmission current driver", 24 CCINM (in) "Inverting input of an operational amplifier for transmission current driver", 25 CCOUT (out) "Output of an operational amplifier for transmission current driver", 26 MDS_CTRL (in) "For POL = VDD MDS_CTRL should = VSS.For POL = VSS MDS_CTRL can be tied to VDD or used as a not reset to control when transmit communications will be enabled", 27 SIGIN (in) "Input pin of the band-pass filter. This pin is connected to VMID bias level with 270K resistor.", 28 HPF (in) "Feedback signal of high-pass filter. This pin is connected to the output of an op-amp for high pass filter with 75K resistor.", 29 LPF (in) "Non-inverting input of an operational amplifier for the low-pass filter", 30 FLT (in) "Input pin of low-pass filter for feedback. This pin is connected to the output of the high-pass filter through 20kohm and the non-inverting input of the low-pass filter through 54kohm resisters.", 31 FLTOUT (out) "Output of the operational amplifier for the low-pass filter. This signal is internally connected to non-inverting input to form a voltage-follower.", 32 CCD (out) "Current integration (for carrier detect circuit)", 34 RXA (out) "MDS-MAU interface signal for received signal activity. This pin is a push-pull output.", 35 RXS (out) "MDS-MAU interface signal for received signal. This pin is a push-pull output.", 36 TXE (in) "MDS-MAU interface signal for enable signal transmission (Schmitt Trigger input)", 37 TXS (in) "MDS-MAU interface signal for signal to be transmitted (Schmitt Trigger input)", 38 POL (in) "Selects polarity of TxE input. When this pin is connected to GND, TxE is active high. When this pin is connected to VDD, TxE is active low."
part B pins: 1 VSS (power) "Connect to ground", 3 VMID (power) "2V bias voltage for AC signals", 9 VSS/SGND (power) "The current absorbed by SHUNT pin (25mA max) is fed to this pin, which must be connected to the ground level", 10 VSS (power) "Ground", 11 VSS (power) "Ground", 17 VDD (power) "Supply voltage input for digital block", 18 VCC (power) "Analog supply voltage", 20 VSS (power) "Ground", 22 VSS (power) "Ground", 33 VSS (power) "Ground", 39 VSS (power) "Ground", 40 VSS (power) "Ground", 41 VSS (power) "Connect to ground", 42 VSS (power) "Connect to ground", 43 VSS (power) "Connect to ground", 44 VCC (power) "Analog supply voltage"

## AMIS-49200-XTP
designator U?
Fieldbus Physical Layer Medium Access Unit (MAU), 4.75 to 6.2 V, -40 to 85 degC, 44-Pin LQFP, Pb-Free, Tape and Reel; Manufacturer: On Semiconductor; PartNumber: AMIS-49200-XTP; Data Rate: 31.25 kbps; Number of Drivers: 1; VCC Max (V): 6.2; VCC Min (V): 4.75; DatasheetVersion: Rev. 7; PackageVersion: Rev. O, 06/2008; PackageReference: LQFP-44-561AA-01; PackageDescription: 44-Pin Quad Flat Package, Body 10 x 10 mm, Pitch 0.8 mm; Supplier 1: Digi-Key; Supplier Part Number 1: AMIS-49200-XTP-ND; Supplier 2: Mouser; Supplier Part Number 2: 863-AMIS-49200-XTP; Data Transmission Standard: MAU; Number of Receivers: 1; Packing: Tape and Reel; RoHS: TRUE; Mounting Technology: Surface Mount; ComponentLink1Description: Manufacturer URL; ComponentLink1URL: http://www.onsemi.com/; ComponentLink2Description: Datasheet; ComponentLink2URL: http://www.onsemi.com/pub_link/Collateral/AMIS-492X0-D.PDF; ComponentLink3Description: Package Specification; ComponentLink3URL: http://www.onsemi.com/pub_link/Collateral/561AA.PDF
footprint ONSC-LQFP-44-561AA-01_N (QFP, 44-Leads, Body 10x10mm, Pitch 0.8mm, IPC Medium Density)
footprint ONSC-LQFP-44-561AA-01_L (QFP, 44-Leads, Body 10x10mm, Pitch 0.8mm, IPC High Density)
footprint ONSC-LQFP-44-561AA-01_M (QFP, 44-Leads, Body 10x10mm, Pitch 0.8mm, IPC Low Density)
part A pins: 2 VREF (out) "Internal bandgap voltage (1.18V)", 4 N_PFAIL1 (io) "Power fail alarm at VCC input. This pin is an open-drain output of negative logic.", 5 N_PFAIL2 (io) "Power fail alarm at VDD input. This pin is an open-drain output of negative logic.", 6 SHSETIN (in) "Feedback (non-inverting) input for the shunt regulator", 7 SHSET (in) "Divided voltage of VCC input. Feeding this voltage to SHSETIN pin results in 5V voltage at VCC.", 8 SHUNT (in) "Control pin of the shunt regulator. Its sink current (25mA max) is controlled so that the voltage at SHSETIN is equal to VREF (1.18V).", 12 SRSETIN (in) "Feedback (inverting) input for the series regulator. The series regulator controls its output (SRAO) to make this input voltage is equal to VREF (1.18V).", 13 SRSET (out) "Divided voltage of VO output. Feeding this voltage into SRSETIN pin results in 3V at VO pin.", 14 SRAO (out) "Output pin of an operational amplifier for the series regulator", 15 SRTR (in) "Gate of a PMOS transistor for the series regulator", 16 VO (out) "Output pin of the series regulator (20mA max)", 19 CRT (io) "Current integration to limit output slew rate", 21 VDRV (out) "Output of an operational amplifier for slew rate control. This signal can be fed to current driver.", 23 CCINP (in) "Non-inverting input of an operational amplifier for transmission current driver", 24 CCINM (in) "Inverting input of an operational amplifier for transmission current driver", 25 CCOUT (out) "Output of an operational amplifier for transmission current driver", 26 MDS_CTRL (in) "For POL = VDD MDS_CTRL should = VSS.For POL = VSS MDS_CTRL can be tied to VDD or used as a not reset to control when transmit communications will be enabled", 27 SIGIN (in) "Input pin of the band-pass filter. This pin is connected to VMID bias level with 270K resistor.", 28 HPF (in) "Feedback signal of high-pass filter. This pin is connected to the output of an op-amp for high pass filter with 75K resistor.", 29 LPF (in) "Non-inverting input of an operational amplifier for the low-pass filter", 30 FLT (in) "Input pin of low-pass filter for feedback. This pin is connected to the output of the high-pass filter through 20kohm and the non-inverting input of the low-pass filter through 54kohm resisters.", 31 FLTOUT (out) "Output of the operational amplifier for the low-pass filter. This signal is internally connected to non-inverting input to form a voltage-follower.", 32 CCD (out) "Current integration (for carrier detect circuit)", 34 RXA (out) "MDS-MAU interface signal for received signal activity. This pin is a push-pull output.", 35 RXS (out) "MDS-MAU interface signal for received signal. This pin is a push-pull output.", 36 TXE (in) "MDS-MAU interface signal for enable signal transmission (Schmitt Trigger input)", 37 TXS (in) "MDS-MAU interface signal for signal to be transmitted (Schmitt Trigger input)", 38 POL (in) "Selects polarity of TxE input. When this pin is connected to GND, TxE is active high. When this pin is connected to VDD, TxE is active low."
part B pins: 1 VSS (power) "Connect to ground", 3 VMID (power) "2V bias voltage for AC signals", 9 VSS/SGND (power) "The current absorbed by SHUNT pin (25mA max) is fed to this pin, which must be connected to the ground level", 10 VSS (power) "Ground", 11 VSS (power) "Ground", 17 VDD (power) "Supply voltage input for digital block", 18 VCC (power) "Analog supply voltage", 20 VSS (power) "Ground", 22 VSS (power) "Ground", 33 VSS (power) "Ground", 39 VSS (power) "Ground", 40 VSS (power) "Ground", 41 VSS (power) "Connect to ground", 42 VSS (power) "Connect to ground", 43 VSS (power) "Connect to ground", 44 VCC (power) "Analog supply voltage"